# Altium footprint library Divers_goldo.PcbLib: 11 footprints
Each footprint in its own frame and in the unit in brackets; x right, y up, seen from the top. Pads: shape width x height; smd on the part's side, far side on the other; paste and mask are expansions set on the pad; w line width, h text height; cw(c..) or ccw(c..) is an arc to the next point about the centre after c.
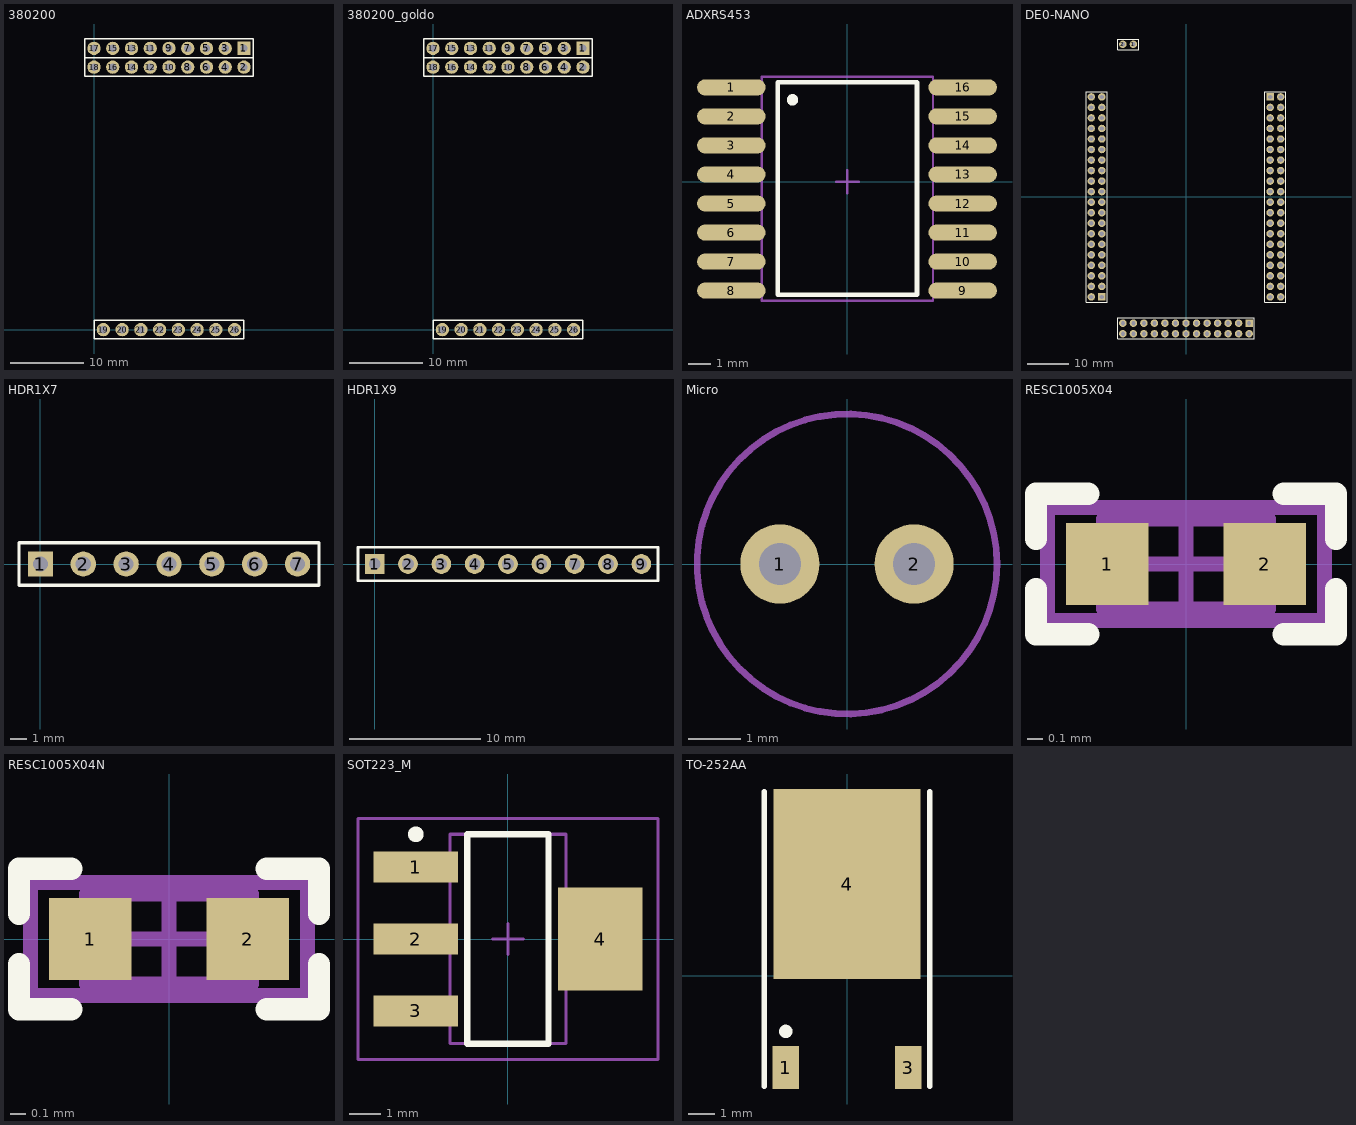
[diagram p0: the footprints below, top view; thin cyan lines are the x and y axes]

## 380200 [mm] "MAXON"
pads (26):
  rect 1.8x1.8 hole 1: 1(20.32,38.1)
  round 1.8 hole 1: 2(20.32,35.56) 3(17.78,38.1) 4(17.78,35.56) 5(15.24,38.1) 6(15.24,35.56) 7(12.7,38.1) 8(12.7,35.56) 9(10.16,38.1) 10(10.16,35.56) 11(7.62,38.1) 12(7.62,35.56) 13(5.08,38.1) 14(5.08,35.56) 15(2.54,38.1) 16(2.54,35.56) 17(0,38.1) 18(0,35.56) 19(1.27,0) 20(3.81,0) 21(6.35,0) 22(8.89,0) 23(11.43,0) 24(13.97,0) 25(16.51,0) 26(19.05,0)
Top Overlay:
  lines w0.2: -1.27,36.83 -1.27,39.37 21.59,39.37 21.59,36.83 ; -1.27,36.83 21.59,36.83 ; -1.27,36.83 21.59,36.83 ; -1.27,36.83 -1.27,34.29 21.59,34.29 21.59,36.83 ; 0,-1.27 0,1.27 20.32,1.27 20.32,-1.27 0,-1.27

## 380200_goldo [mm] "MAXON"
pads (26):
  rect 1.8x1.8 hole 1: 1(20.32,38.1)
  round 1.8 hole 1: 2(20.32,35.56) 3(17.78,38.1) 4(17.78,35.56) 5(15.24,38.1) 6(15.24,35.56) 7(12.7,38.1) 8(12.7,35.56) 9(10.16,38.1) 10(10.16,35.56) 11(7.62,38.1) 12(7.62,35.56) 13(5.08,38.1) 14(5.08,35.56) 15(2.54,38.1) 16(2.54,35.56) 17(0,38.1) 18(0,35.56) 19(1.27,0) 20(3.81,0) 21(6.35,0) 22(8.89,0) 23(11.43,0) 24(13.97,0) 25(16.51,0) 26(19.05,0)
Top Overlay:
  lines w0.2: -1.27,36.83 -1.27,39.37 21.59,39.37 21.59,36.83 ; -1.27,36.83 21.59,36.83 ; -1.27,36.83 21.59,36.83 ; -1.27,36.83 -1.27,34.29 21.59,34.29 21.59,36.83 ; 0,-1.27 0,1.27 20.32,1.27 20.32,-1.27 0,-1.27
3D body: height 0, standoff 0, extent 0.001,-1.269 20.319,1.269
3D body: height 0, standoff 0, extent -1.269,34.291 21.589,36.829
3D body: height 0, standoff 0, extent -1.269,36.831 21.589,39.369

## ADXRS453 [mm] "SOIC, 16-Leads, Body 9,6x7,8mm (max), Pitch 1,27mm, IPC Medium Density"
height 3.8
pads (16):
  oval 3x0.7 smd: 1(-5.08,4.127) 2(-5.08,2.857) 3(-5.08,1.587) 4(-5.08,0.318) 5(-5.08,-0.953) 6(-5.08,-2.222) 7(-5.08,-3.492) 8(-5.08,-4.763) 9(5.05,-4.763) 10(5.05,-3.492) 11(5.05,-2.222) 12(5.05,-0.953) 13(5.05,0.318) 14(5.05,1.587) 15(5.05,2.857) 16(5.05,4.127)
Top Overlay:
  circle w0.25: c-2.4,3.582 r0.125
  lines w0.2: -3.048,-4.953 -3.048,4.35 3.048,4.35 3.048,-4.953 -3.048,-4.953
Mechanical 13:
  lines w0.1: -3.048,-4.953 -3.048,4.33 3.048,4.33 3.048,-4.953 -3.048,-4.953
Mechanical 15:
  lines w0.1: -0.5,0 0.5,0 ; 0,-0.5 0,0.5 ; -3.75,-5.207 -3.75,4.6 3.75,4.6 3.75,-5.207 -3.75,-5.207
3D body: height 1.63, standoff 0.15, extent -3.048,-4.953 3.048,4.33

## DE0-NANO [mm]
pads (108):
  round 1.8 hole 1: 1(-12.7,36.83) 2(-15.24,36.83) 102(22.86,24.13) 103(20.32,21.59) 104(22.86,21.59) 105(20.32,19.05) 106(22.86,19.05) 107(20.32,16.51) 108(22.86,16.51) 109(20.32,13.97) 110(22.86,13.97) 111(20.32,11.43) 112(22.86,11.43) 113(20.32,8.89) 114(22.86,8.89) 115(20.32,6.35) 116(22.86,6.35) 117(20.32,3.81) 118(22.86,3.81) 119(20.32,1.27) 120(22.86,1.27) 121(20.32,-1.27) 122(22.86,-1.27) 123(20.32,-3.81) 124(22.86,-3.81) 125(20.32,-6.35) 126(22.86,-6.35) 127(20.32,-8.89) 128(22.86,-8.89) 129(20.32,-11.43) 130(22.86,-11.43) 131(20.32,-13.97) 132(22.86,-13.97) 133(20.32,-16.51) 134(22.86,-16.51) 135(20.32,-19.05) 136(22.86,-19.05) 137(20.32,-21.59) 138(22.86,-21.59) 139(20.32,-24.13) 140(22.86,-24.13) 202(-22.86,-24.13) 203(-20.32,-21.59) 204(-22.86,-21.59) 205(-20.32,-19.05) 206(-22.86,-19.05) 207(-20.32,-16.51) 208(-22.86,-16.51) 209(-20.32,-13.97) 210(-22.86,-13.97) 211(-20.32,-11.43) 212(-22.86,-11.43) 213(-20.32,-8.89) 214(-22.86,-8.89) 215(-20.32,-6.35) 216(-22.86,-6.35) 217(-20.32,-3.81) 218(-22.86,-3.81) 219(-20.32,-1.27) 220(-22.86,-1.27) 221(-20.32,1.27) 222(-22.86,1.27) 223(-20.32,3.81) 224(-22.86,3.81) 225(-20.32,6.35) 226(-22.86,6.35) 227(-20.32,8.89) 228(-22.86,8.89) 229(-20.32,11.43) 230(-22.86,11.43) 231(-20.32,13.97) 232(-22.86,13.97) 233(-20.32,16.51) 234(-22.86,16.51) 235(-20.32,19.05) 236(-22.86,19.05) 237(-20.32,21.59) 238(-22.86,21.59) 239(-20.32,24.13) 240(-22.86,24.13) 302(15.24,-33.02) 303(12.7,-30.48) 304(12.7,-33.02) 305(10.16,-30.48) 306(10.16,-33.02) 307(7.62,-30.48) 308(7.62,-33.02) 309(5.08,-30.48) 310(5.08,-33.02) 311(2.54,-30.48) 312(2.54,-33.02) 313(0,-30.48) 314(0,-33.02) 315(-2.54,-30.48) 316(-2.54,-33.02) 317(-5.08,-30.48) 318(-5.08,-33.02) 319(-7.62,-30.48) 320(-7.62,-33.02) 321(-10.16,-30.48) 322(-10.16,-33.02) 323(-12.7,-30.48) 324(-12.7,-33.02) 325(-15.24,-30.48) 326(-15.24,-33.02)
  rect 1.8x1.8 hole 1: 101(20.32,24.13) 201(-20.32,-24.13) 301(15.24,-30.48)
Top Overlay:
  lines w0.2: -24.13,-25.4 -19.05,-25.4 -19.05,25.4 -24.13,25.4 -24.13,-25.4 ; -16.51,-34.29 -16.51,-29.21 16.51,-29.21 16.51,-34.29 -16.51,-34.29 ; -16.51,35.56 -11.43,35.56 -11.43,38.1 -16.51,38.1 -16.51,35.56 ; 19.05,-25.4 24.13,-25.4 24.13,25.4 19.05,25.4 19.05,-25.4
3D body: height 0, standoff 0, extent 19.051,-25.4 21.59,25.4
3D body: height 0, standoff 0, extent 21.591,-25.4 24.13,25.4
3D body: height 0, standoff 0, extent -24.129,-25.4 -21.591,25.4
3D body: height 0, standoff 0, extent -21.589,-25.4 -19.05,25.4
3D body: height 0, standoff 0, extent -16.51,35.561 -11.43,38.1
3D body: height 0, standoff 0, extent -16.51,-31.749 16.51,-29.211
3D body: height 0, standoff 0, extent -16.51,-34.289 16.51,-31.751

## HDR1X7 [mm]
pads (7):
  rect 1.5x1.5 hole 0.9: 1(0,0)
  round 1.5 hole 0.9: 2(2.54,0) 3(5.08,0) 4(7.62,0) 5(10.16,0) 6(12.7,0) 7(15.24,0)
Top Overlay:
  lines w0.2: -1.27,-1.27 16.51,-1.27 16.51,1.27 -1.27,1.27 -1.27,-1.27

## HDR1X9 [mm]
pads (9):
  rect 1.5x1.5 hole 0.9: 1(0,0)
  round 1.5 hole 0.9: 2(2.54,0) 3(5.08,0) 4(7.62,0) 5(10.16,0) 6(12.7,0) 7(15.24,0) 8(17.78,0) 9(20.32,0)
Top Overlay:
  lines w0.2: -1.27,-1.27 -1.27,1.27 21.59,1.27 21.59,-1.27 -1.27,-1.27

## Micro [mm]
pads (2):
  round 1.5 hole 0.8: 1(-1.27,0) 2(1.27,0)
Mechanical 13:
  circle w0.127: c0,0 r2.84

## RESC1005X04 [mm] "Chip Resistor, 2-Leads, Body 1,1x0,5mm, IPC High Density"
height 0.4
pads (2):
  rect 0.55x0.55 smd: 1(-0.525,0) 2(0.525,0)
Top Overlay:
  lines w0.15: -1,-0.17 -1,-0.47 -0.65,-0.47 ; -1,0.17 -1,0.47 -0.65,0.47 ; 0.65,-0.47 1,-0.47 1,-0.17 ; 0.65,0.47 1,0.47 1,0.17
Mechanical 7:
  lines w0.1: -0.55,-0.3 -0.55,0.3 0.55,0.3 0.55,-0.3 -0.55,-0.3
  text ".Designator" at -0.4,-0.2 h1.2
Mechanical 9:
  lines w0.1: -0.925,-0.375 -0.925,0.375 0.925,0.375 0.925,-0.375 -0.925,-0.375
Mechanical 15:
  lines w0.1: -0.3,0 0.3,0 ; 0,-0.3 0,0.3
3D body "User Library-RESC1005X04N.STEP": height 0.35, standoff 0, extent -0.5,-0.25 0.5,0.25

## RESC1005X04N [mm] "Chip Resistor, 2-Leads, Body 1,1x0,5mm, IPC High Density"
height 0.4
pads (2):
  rect 0.55x0.55 smd: 1(-0.525,0) 2(0.525,0)
Top Overlay:
  lines w0.15: -1,-0.17 -1,-0.47 -0.65,-0.47 ; -1,0.17 -1,0.47 -0.65,0.47 ; 0.65,-0.47 1,-0.47 1,-0.17 ; 0.65,0.47 1,0.47 1,0.17
Mechanical 7:
  lines w0.1: -0.55,-0.3 -0.55,0.3 0.55,0.3 0.55,-0.3 -0.55,-0.3
  text ".Designator" at -0.4,-0.2 h1.2
Mechanical 9:
  lines w0.1: -0.925,-0.375 -0.925,0.375 0.925,0.375 0.925,-0.375 -0.925,-0.375
Mechanical 15:
  lines w0.1: -0.3,0 0.3,0 ; 0,-0.3 0,0.3
3D body "User Library-RESC1005X04N.STEP": height 0.35, standoff 0, extent -0.5,-0.25 0.5,0.25

## SOT223_M [mm] "SOT223, 4-Leads, Body 6.5x3.5mm, Pitch 2.3mm, Lead Span 7mm, IPC Low Density"
height 1.7
pads (4):
  rect 2.7x1 smd: 1(-2.95,2.3) 2(-2.95,0) 3(-2.95,-2.3)
  rect 2.7x3.3 smd: 4(2.95,0)
Top Overlay:
  circle w0.25: c-2.95,3.35 r0.125
  lines w0.2: -1.3,-3.35 1.3,-3.35 1.3,3.35 -1.3,3.35 -1.3,-3.35
Mechanical 13:
  lines w0.1: -1.85,-3.35 1.85,-3.35 1.85,3.35 -1.85,3.35 -1.85,-3.35
Mechanical 15:
  lines w0.1: -0.5,0 0.5,0 ; 0,-0.5 0,0.5 ; -4.8,-3.85 4.8,-3.85 4.8,3.85 -4.8,3.85 -4.8,-3.85
3D body: height 1.7, standoff 0, extent -1.85,-3.35 1.85,3.35

## TO-252AA [mm] "D-PAK/TO-252-AA; 3 Leads (1 Cropped); Body 10.4 (inc. leads) x 6.7 mm (LxW max)"
height 2.38
pads (3):
  rect 1x1.6 smd: 1(-2.285,-3.425) 3(2.285,-3.425)
  rect 5.5x7.1 smd: 4(0,3.425)
Top Overlay:
  circle w0.25: c-2.285,-2.075 r0.125
  lines w0.2: -3.085,-4.125 -3.085,6.875 ; 3.085,-4.125 3.085,6.875